# Altium schematic symbol library BTS3800SL.SchLib: 1 symbol
Pins are listed as number, name and electrical type; pins without a type are passive.

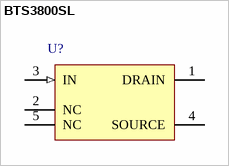
[diagram p0: symbol BTS3800SL]

## BTS3800SL
designator U?
HITFET Smart Low Side Power Switch, Small Protected Automotive Relay Driver Single Channel, 800 mOhm, 41 V VDS, 0.52 A ID, -40 to 150 degC, PG-SCT595, Reel, Green; Manufacturer: Infineon; PartNumber: BTS3800SL; Channels: 1; Green: TRUE; ID: 0.52 A; ID(nom): 0.35 A; ID(lim) (min): 0.75 A; ISC (max): 1.5 A; ton (max): 5 us; VDS (max): 41 V; DatasheetVersion: Rev. 1.1; PackageVersion: Apr-08; PackageReference: PG-SCT595; PackageDescription: 5-Pin Semiconductor Transistor Package, 2.9 x 1.6 mm Body, 0.95 mm Pitch; Supplier 1: Digi-Key; Supplier Part Number 1: BTS3800SL-ND; Supplier 2: Farnell; Supplier Part Number 2: 2215528; Supplier 3: Newark; Supplier Part Number 3: 47W3386; Supplier 4: Mouser; Supplier Part Number 4: 726-BTS3800SL; Group: HITFET; Halogen-free: FALSE; Packing: Reel; RDS (on)(max): 800 mOhm; toff (max): 5 us; Mounting Technology: Surface Mount; ComponentLink1Description: Manufacturer URL; ComponentLink1URL: http://www.infineon.com/; ComponentLink2Description: Datasheet; ComponentLink2URL: http://www.infineon.com/dgdl/BTS3800_DS_11.pdf?folderId=db3a30431ddc9372011e26863f92474e&fileId=db3a30432fbc32ee012fc48b8196750a&location=en.Products.Automotive_ICs.Smart_High-_and_Low-Side_Switches.HITFET___TEMPFET__-_Smart_Low-Side_Switches.DATASHEET.BTS3800_DS_11.pdf; ComponentLink3Description: Package Specification; ComponentLink3URL: http://www.infineon.com/dgdl/SCT595-Package_Overview.pdf?folderId=db3a30431936bc4b01195289a4e23b8a&fileId=db3a30431936bc4b0119529a880d3bb2
footprint INF-PG-SCT595_V (SOT23, 5-Leads, Body 2.9x1.6mm, Pitch 0.95mm)
pins: 1 DRAIN (power) "Drain pin; Load connection for power DMOS", 2 NC "Not connected; Should be connected to ground for cooling", 3 IN (in) "Input pin; Digital input", 4 SOURCE (power) "Source pin; Ground, Source of power DMOS", 5 NC "Not connected; Should be connected to ground for cooling"